# EAGLE library part 2-5174225-5 (library Connector_D-Sub)
D-SUB, 68POS, PLUG, R/A SLDR Datasheet <https://www.te.com/commerce/DocumentDelivery/DDEController?Action=showdoc&DocId=Customer+Drawing%7F5174225%7FE%7Fpdf%7FEnglish%7FENG_CD_5174225_E.pdf%7F2-5174225-5>
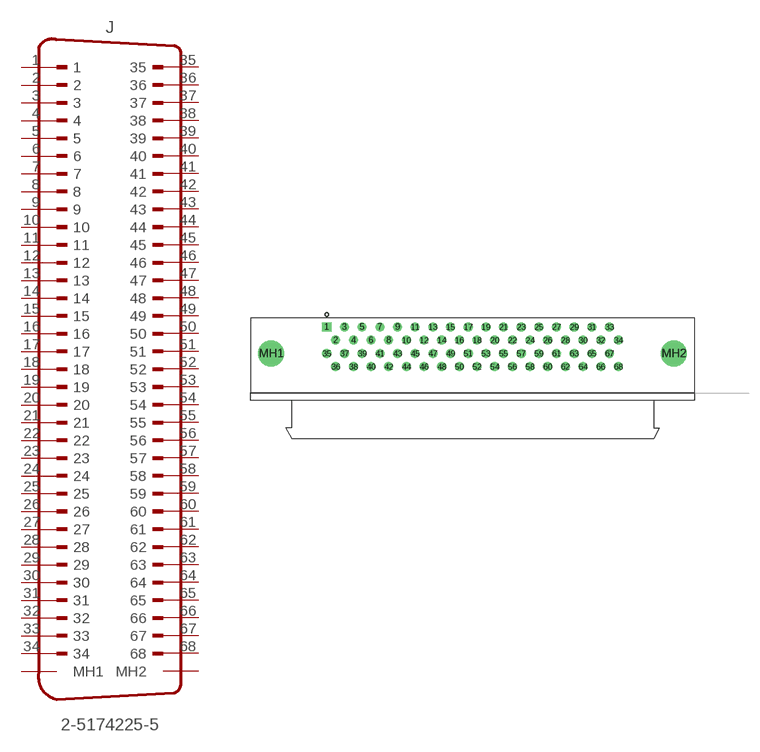
[diagram p10: symbol with the pads of 2-5174225-5; footprint 2-5174225-5]

Designator prefix J

## 2-5174225-5 (CATEGORY: Connector; GENDER: Male; MANUFACTURER: TE Connectivity / AMP; MPN: 2-5174225-5; OPERATING_TEMPERATURE: - 25 °C to 70 °C; PART_STATUS: ACTIVE; ROHS_COMPLIANT: COMPLIANT; SERIES: 251; SUB_CATEGORY: D-SUB; TYPE: R/A; VALUE: D-TYPE-PLUG-68P)  [2-5174225-5]
1  1  pas
2  2  pas
3  3  pas
4  4  pas
5  5  pas
6  6  pas
7  7  pas
8  8  pas
9  9  pas
10  10  pas
11  11  pas
12  12  pas
13  13  pas
14  14  pas
15  15  pas
16  16  pas
17  17  pas
18  18  pas
19  19  pas
20  20  pas
21  21  pas
22  22  pas
23  23  pas
24  24  pas
25  25  pas
26  26  pas
27  27  pas
28  28  pas
29  29  pas
30  30  pas
31  31  pas
32  32  pas
33  33  pas
34  34  pas
35  35  pas
36  36  pas
37  37  pas
38  38  pas
39  39  pas
40  40  pas
41  41  pas
42  42  pas
43  43  pas
44  44  pas
45  45  pas
46  46  pas
47  47  pas
48  48  pas
49  49  pas
50  50  pas
51  51  pas
52  52  pas
53  53  pas
54  54  pas
55  55  pas
56  56  pas
57  57  pas
58  58  pas
59  59  pas
60  60  pas
61  61  pas
62  62  pas
63  63  pas
64  64  pas
65  65  pas
66  66  pas
67  67  pas
68  68  pas
MH1  MH1  sup
MH2  MH2  sup

## Footprint 2-5174225-5 (pad centres in mm)
drill 0.8 square: 1 0,0
drill 0.8: 2 1.27,-1.905; 3 2.54,0; 4 3.81,-1.905; 5 5.08,0; 6 6.35,-1.905; 7 7.62,0; 8 8.89,-1.905; 9 10.16,0; 10 11.43,-1.905; 11 12.7,0; 12 13.97,-1.905; 13 15.24,0; 14 16.51,-1.905; 15 17.78,0; 16 19.05,-1.905; 17 20.32,0; 18 21.59,-1.905; 19 22.86,0; 20 24.13,-1.905; 21 25.4,0; 22 26.67,-1.905; 23 27.94,0; 24 29.21,-1.905; 25 30.48,0; 26 31.75,-1.905; 27 33.02,0; 28 34.29,-1.905; 29 35.56,0; 30 36.83,-1.905; 31 38.1,0; 32 39.37,-1.905; 33 40.64,0; 34 41.91,-1.905; 35 0,-3.81; 36 1.27,-5.715; 37 2.54,-3.81; 38 3.81,-5.715; 39 5.08,-3.81; 40 6.35,-5.715; 41 7.62,-3.81; 42 8.89,-5.715; 43 10.16,-3.81; 44 11.43,-5.715; 45 12.7,-3.81; 46 13.97,-5.715; 47 15.24,-3.81; 48 16.51,-5.715; 49 17.78,-3.81; 50 19.05,-5.715; 51 20.32,-3.81; 52 21.59,-5.715; 53 22.86,-3.81; 54 24.13,-5.715; 55 25.4,-3.81; 56 26.67,-5.715; 57 27.94,-3.81; 58 29.21,-5.715; 59 30.48,-3.81; 60 31.75,-5.715; 61 33.02,-3.81; 62 34.29,-5.715; 63 35.56,-3.81; 64 36.83,-5.715; 65 38.1,-3.81; 66 39.37,-5.715; 67 40.64,-3.81; 68 41.91,-5.715
drill 2.7: MH1 -7.995,-3.81; MH2 49.905,-3.81